# Altium footprint library Footprints.PcbLib: 12 footprints
Each footprint in its own frame and in the unit in brackets; x right, y up, seen from the top. Pads: shape width x height; smd on the part's side, far side on the other; paste and mask are expansions set on the pad; w line width, h text height; cw(c..) or ccw(c..) is an arc to the next point about the centre after c.
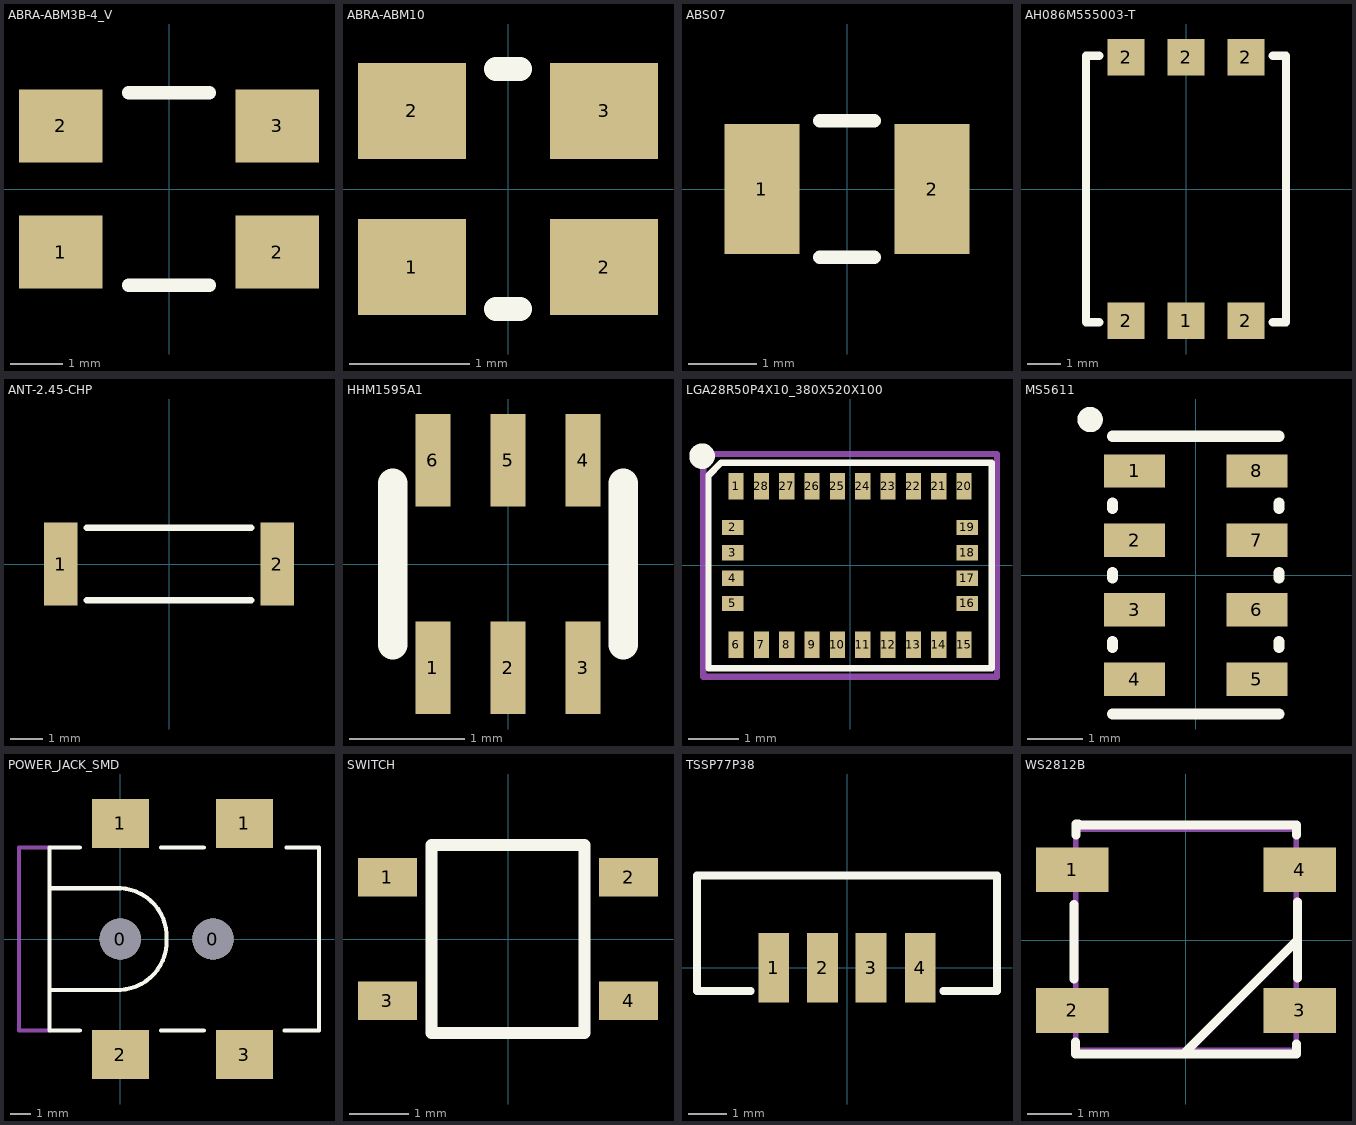
[diagram p0: the footprints below, top view; thin cyan lines are the x and y axes]

## ABRA-ABM3B-4_V [mil] "SMT Crystal, 4-Leads, Body 5.2x3.4mm"
pads (4):
  rect 63x55 smd: 1(-81.5,-47.5) 2(-81.5,47.5) 2(81.5,-47.5) 3(81.5,47.5)
Top Overlay:
  lines w10: -30.5,-72.5 30.5,-72.5 ; -30.5,72.5 30.5,72.5
3D body "ABM3B.STEP": height 43.3, standoff -0.5, extent -98.42,-62.49 98.43,62.51

## ABRA-ABM10 [mm] "SMT Crystal, 4-Leads, Body 5.2x3.4mm"
pads (4):
  rect 0.9x0.8 smd: 1(-0.8,-0.65) 2(-0.8,0.65) 2(0.8,-0.65) 3(0.8,0.65)
Top Overlay:
  lines w0.2: -0.1,-1 0.1,-1 ; -0.1,1 0.1,1
3D body "ABM10.STEP": height 0.51, standoff 0, extent -1.245,-1.003 1.245,1.003

## ABS07 [mm]
pads (2):
  rect 1.1x1.9 smd: 1(-1.25,0) 2(1.25,0)
Top Overlay:
  lines w0.2: -0.4,-1 0.4,-1 ; -0.4,1 0.4,1
3D body "ABS07.STEP": height 0.89, standoff 0, extent -1.6,-0.749 1.6,0.749

## AH086M555003-T [mm]
pads (6):
  rect 1.1x1.1 smd mask+0: 1(0,-3.95) 2(-1.8,-3.95) 2(-1.8,3.95) 2(0,3.95) 2(1.8,-3.95) 2(1.8,3.95)
Top Overlay:
  lines w0.254: -2.6,-4 -3,-4 -3,4 -2.6,4 ; 2.6,-4 3,-4 3,4 2.6,4
3D body: height 1, standoff 0, extent -3,-4 3,4

## ANT-2.45-CHP [mil]
pads (2):
  rect 40x100 smd mask+0: 1(-130,0) 2(130,0)
Top Overlay:
  lines w7.87: -98.43,-43.31 98.43,-43.31 ; -98.43,43.31 98.43,43.31
3D body: height 39.37, standoff 0, extent -127.95,-43.31 127.95,43.31

## HHM1595A1 [mm]
pads (6):
  rect 0.3x0.8 smd mask+0: 1(-0.65,-0.9) 2(0,-0.9) 3(0.65,-0.9) 4(0.65,0.9) 5(0,0.9) 6(-0.65,0.9)
Top Overlay:
  lines w0.254: -1,-0.7 -1,0.7 ; 1,-0.7 1,0.7
3D body: height 0.95, standoff 0, extent -1,-0.7 1,0.7

## LGA28R50P4X10_380X520X100 [mm]
pads (28):
  rect 0.3x0.525 smd mask+0.076: 1(-2.25,1.562) 6(-2.25,-1.562) 7(-1.75,-1.562) 8(-1.25,-1.562) 9(-0.75,-1.562) 10(-0.25,-1.562) 11(0.25,-1.562) 12(0.75,-1.562) 13(1.25,-1.562) 14(1.75,-1.562) 15(2.25,-1.562) 20(2.25,1.562) 21(1.75,1.562) 22(1.25,1.562) 23(0.75,1.562) 24(0.25,1.562) 25(-0.25,1.562) 26(-0.75,1.562) 27(-1.25,1.562) 28(-1.75,1.562)
  rect 0.425x0.3 smd mask+0.076: 2(-2.312,0.75) 3(-2.312,0.25) 4(-2.312,-0.25) 5(-2.312,-0.75) 16(2.312,-0.75) 17(2.312,-0.25) 18(2.312,0.25) 19(2.312,0.75)
Top Overlay:
  circle w0.305: c-2.921,2.159 r0.1
  lines w0.127: -2.794,-2.032 -2.794,1.778 -2.54,2.032 2.794,2.032 2.794,-2.032 -2.794,-2.032
Top Paste:
  region: -1.6,1.825 -1.9,1.825 -1.9,1.3 -1.6,1.3
  region: -1.1,1.825 -1.4,1.825 -1.4,1.3 -1.1,1.3
  region: -0.6,1.825 -0.9,1.825 -0.9,1.3 -0.6,1.3
  region: -0.1,1.825 -0.4,1.825 -0.4,1.3 -0.1,1.3
  region: 0.4,1.825 0.1,1.825 0.1,1.3 0.4,1.3
  region: 0.9,1.825 0.6,1.825 0.6,1.3 0.9,1.3
  region: 1.4,1.825 1.1,1.825 1.1,1.3 1.4,1.3
  region: 1.9,1.825 1.6,1.825 1.6,1.3 1.9,1.3
  region: 2.4,1.825 2.1,1.825 2.1,1.3 2.4,1.3
  region: 2.1,0.9 2.1,0.6 2.525,0.6 2.525,0.9
  region: 2.1,0.4 2.1,0.1 2.525,0.1 2.525,0.4
  region: 2.1,-0.1 2.1,-0.4 2.525,-0.4 2.525,-0.1
  region: 2.1,-0.6 2.1,-0.9 2.525,-0.9 2.525,-0.6
  region: 2.4,-1.3 2.1,-1.3 2.1,-1.825 2.4,-1.825
  region: 1.9,-1.3 1.6,-1.3 1.6,-1.825 1.9,-1.825
  region: 1.4,-1.3 1.1,-1.3 1.1,-1.825 1.4,-1.825
  region: 0.9,-1.3 0.6,-1.3 0.6,-1.825 0.9,-1.825
  region: 0.4,-1.3 0.1,-1.3 0.1,-1.825 0.4,-1.825
  region: -0.1,-1.3 -0.4,-1.3 -0.4,-1.825 -0.1,-1.825
  region: -0.6,-1.3 -0.9,-1.3 -0.9,-1.825 -0.6,-1.825
  region: -1.1,-1.3 -1.4,-1.3 -1.4,-1.825 -1.1,-1.825
  region: -1.6,-1.3 -1.9,-1.3 -1.9,-1.825 -1.6,-1.825
  region: -2.1,-1.3 -2.4,-1.3 -2.4,-1.825 -2.1,-1.825
  region: -2.525,-0.6 -2.525,-0.9 -2.1,-0.9 -2.1,-0.6
  region: -2.525,-0.1 -2.525,-0.4 -2.1,-0.4 -2.1,-0.1
  region: -2.525,0.4 -2.525,0.1 -2.1,0.1 -2.1,0.4
  region: -2.525,0.9 -2.525,0.6 -2.1,0.6 -2.1,0.9
  region: -2.1,1.825 -2.4,1.825 -2.4,1.3 -2.1,1.3
Mechanical 1:
  lines w0.127: -2.9,-2.2 -2.9,2.2 2.9,2.2 2.9,-2.2 -2.9,-2.2
3D body: height 0.6, standoff 0, extent -2.5,-1.8 2.5,1.8

## MS5611 [mm]
pads (8):
  rect 1.1x0.6 smd: 1(-1.1,1.875) 2(-1.1,0.625) 3(-1.1,-0.625) 4(-1.1,-1.875) 5(1.1,-1.875) 6(1.1,-0.625) 7(1.1,0.625) 8(1.1,1.875)
Top Overlay:
  circle w0.254: c-1.9,2.8 r0.1
  lines w0.2: -1.5,-2.5 1.5,-2.5 ; -1.5,-1.3 -1.5,-1.2 ; -1.5,-0.05 -1.5,0.05 ; -1.5,1.2 -1.5,1.3 ; -1.5,2.5 1.5,2.5 ; 1.5,-1.3 1.5,-1.2 ; 1.5,-0.05 1.5,0.05 ; 1.5,1.2 1.5,1.3

## POWER_JACK_SMD [mil]
pads (6):
  round 80 hole 80: 0(0,0) 0(180,0)
  rect 111x95 smd: 1(0,225) 1(241,225) 2(0,-224.41) 3(241,-224.41)
Top Overlay:
  lines w8: -78.74,-177.17 -137.8,-177.17 -137.8,-98.43 ; -78.74,178 -137.8,178 -137.8,99 ; 79,-177.17 162,-177.17 ; 79,178 162,178 ; 319,-177.17 386,-177.17 386,178 323,178 ; -137.8,-98.43 -137.8,99 ; -137.8,-98.43 0,-98.43 ccw(c-4.21,-4.21) 90,0 ccw(c-4.5,4.5) 0,99 -137.8,99
Mechanical 16:
  lines w8: -137.8,-177.17 -196.85,-177.17 -196.85,178 -137.8,178
3D body "pj-002bh-smt.stp": height 433.07, standoff -47.24, extent -197.68,-248.03 385,248.03

## SWITCH [mm]
pads (4):
  rect 1x0.65 smd: 1(-2.05,1.05) 2(2.05,1.05) 3(-2.05,-1.05) 4(2.05,-1.05)
Top Overlay:
  lines w0.2: -1.3,-1.6 -1.3,1.6 1.3,1.6 1.3,-1.6 -1.3,-1.6
3D body "PTS810.STEP": height 2.5, standoff 0, extent -2.3,-1.6 2.3,1.6

## TSSP77P38 [mm]
pads (4):
  rect 0.8x1.8 smd mask+0: 1(-1.905,0) 2(-0.635,0) 3(0.625,0) 4(1.905,0)
Top Overlay:
  lines w0.2: -2.5,-0.6 -3.9,-0.6 -3.9,2.4 3.9,2.4 3.9,-0.6 2.5,-0.6

## WS2812B [mil]
pads (4):
  rect 65x40 smd: 1(-101.46,63) 2(-101.46,-62.99) 3(102,-62.99) 4(102,63)
Top Overlay:
  lines w8: -100,-35 -100,32 ; -98.8,-91.3 -98.8,-102 -96.8,-102 -96.8,-102.1 99,-102.1 99,-93.2 ; -98,94 -98,104 -96,104 -96,103 99,103 99,94 ; 0,-100 100,0 ; 100,-34 100,0 ; 100,34 100,0
Mechanical 16:
  lines w5: -98.43,-98.43 -98.43,99 99,99 99,-98.43 -98.43,-98.43
3D body "WS2812_RGB_LED_updated.stp": height 59.06, standoff -7.87, extent -105.32,-97.45 105.31,97.43